# Altium integrated library CL10B104KB8NNNL.IntLib: 1 symbol
Pins are listed as number, name and electrical type; pins without a type are passive.

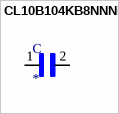
[diagram p0: symbol CL10B104KB8NNNL]

## CL10B104KB8NNNL
designator C
0.1ÂµF Â±10% 50V Ceramic Capacitor X7R 0603 _1608 Metric_; MP: CL10B104KB8NNNL; MF: Samsung Electro-Mechanics; SnapEDA_Link: https://www.snapeda.com/parts/CL10B104KB8NNNL/Samsung%20Electro-Mechanics/view-part/3598555/?ref=snap; Availability: Unavailable; Package: 0603 Samsung; Value: *; Price: None
footprint CAPC1608X90N
pins: 1, 2